# Altium footprint library CHAR-112AC75.PcbLib: 1 footprints
Each footprint in its own frame and in the unit in brackets; x right, y up, seen from the top. Pads: shape width x height; smd on the part's side, far side on the other; paste and mask are expansions set on the pad; w line width, h text height; cw(c..) or ccw(c..) is an arc to the next point about the centre after c.
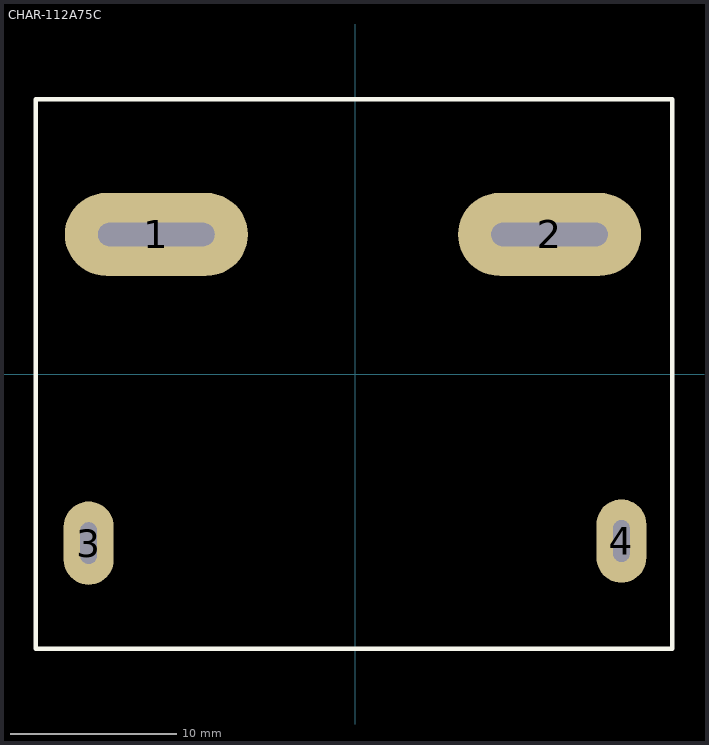
[diagram p0: the footprint, top view; thin cyan lines are the x and y axes]

## CHAR-112A75C [mm] "CHAR-112A75C"
pads (4):
  oval 11x5 hole 1.4 slot 7 at 0 deg: 1(-11.938,8.382) 2(11.684,8.382)
  oval 3x5 hole 1 slot 2.5 at 90 deg unplated: 3(-16.002,-10.16) 4(16.002,-10.033)
Top Overlay:
  lines w0.254: -19.177,-16.51 19.05,-16.51 19.05,16.51 -19.177,16.51 -19.177,-16.51
3D body "CHAR-112A75C.STEP": height 39.01, standoff -4, extent -19.077,-16.51 18.923,16.49